# Altium schematic symbol library BDS_NBIOT.SchLib: 20 symbols
Pins are listed as number, name and electrical type; pins without a type are passive.

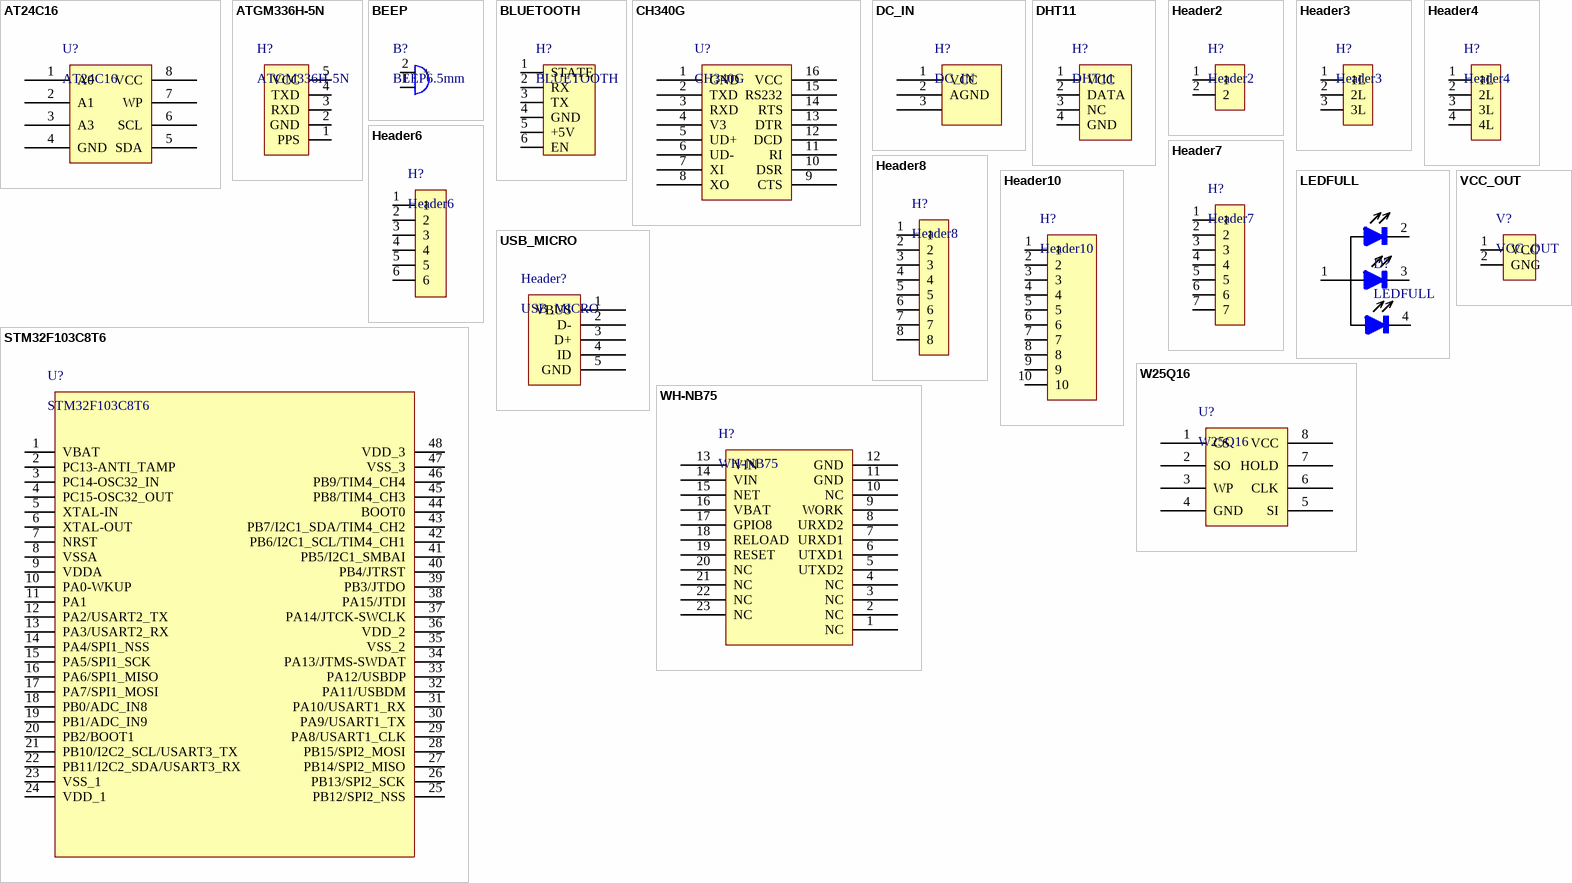
[diagram p0: symbols AT24C16 to WH-NB75]

## AT24C16
designator U?
EEPROM
pins: 1 A0, 2 A1, 3 A3, 4 GND, 5 SDA, 6 SCL, 7 WP, 8 VCC

## ATGM336H-5N
designator H?
GPS
pins: 1 PPS, 2 GND, 3 RXD, 4 TXD, 5 VCC

## BEEP
designator B?, comment BEEP6.5mm
蜂鸣器
footprint BEEP 6.5x12x6 (6.5*12*6mm(脚距,直径,高度))
pins: 1, 2 +

## BLUETOOTH
designator H?
蓝牙模组
footprint BLUETOOTH (蓝牙模块)
pins: 1 STATE, 2 RX, 3 TX, 4 GND, 5 +5V, 6 EN

## CH340G
designator U?
CH340芯片
pins: 1 GND, 2 TXD, 3 RXD, 4 V3, 5 UD+, 6 UD-, 7 XI, 8 XO, 9 CTS, 10 DSR, 11 RI, 12 DCD, 13 DTR, 14 RTS, 15 RS232, 16 VCC

## DC_IN
designator H?
电源座子
footprint DC-005 (5.5*2.1mm，DC30V,2.5A)
pins: 1 VCC, 2 AGND, 3

## DHT11
designator H?
DHT11温湿度传感器
footprint DHT11 (温湿度传感器)
pins: 1 VCC, 2 DATA, 3 NC, 4 GND

## Header2
designator H?
2P接线
pins: 1, 2

## Header3
designator H?
3P接线
pins: 1 1L, 2 2L, 3 3L

## Header4
designator H?
4P接线
pins: 1 1L, 2 2L, 3 3L, 4 4L

## Header6
designator H?
6P接线
pins: 1, 2, 3, 4, 5, 6

## Header7
designator H?
7P接线
pins: 1, 2, 3, 4, 5, 6, 7

## Header8
designator H?
8P接线
pins: 1, 2, 3, 4, 5, 6, 7, 8

## Header10
designator H?
10P接线
pins: 1, 2, 3, 4, 5, 6, 7, 8, 9, 10

## LEDFULL
designator D?
全彩LED
pins: 1, 2, 3, 4

## STM32F103C8T6
designator U?
pins: 1 VBAT, 2 PC13-ANTI_TAMP, 3 PC14-OSC32_IN, 4 PC15-OSC32_OUT, 5 XTAL-IN, 6 XTAL-OUT, 7 NRST, 8 VSSA, 9 VDDA, 10 PA0-WKUP, 11 PA1, 12 PA2/USART2_TX, 13 PA3/USART2_RX, 14 PA4/SPI1_NSS, 15 PA5/SPI1_SCK, 16 PA6/SPI1_MISO, 17 PA7/SPI1_MOSI, 18 PB0/ADC_IN8, 19 PB1/ADC_IN9, 20 PB2/BOOT1, 21 PB10/I2C2_SCL/USART3_TX, 22 PB11/I2C2_SDA/USART3_RX, 23 VSS_1, 24 VDD_1, 25 PB12/SPI2_NSS, 26 PB13/SPI2_SCK, 27 PB14/SPI2_MISO, 28 PB15/SPI2_MOSI, 29 PA8/USART1_CLK, 30 PA9/USART1_TX, 31 PA10/USART1_RX, 32 PA11/USBDM, 33 PA12/USBDP, 34 PA13/JTMS-SWDAT, 35 VSS_2, 36 VDD_2, 37 PA14/JTCK-SWCLK, 38 PA15/JTDI, 39 PB3/JTDO, 40 PB4/JTRST, 41 PB5/I2C1_SMBAI, 42 PB6/I2C1_SCL/TIM4_CH1, 43 PB7/I2C1_SDA/TIM4_CH2, 44 BOOT0, 45 PB8/TIM4_CH3, 46 PB9/TIM4_CH4, 47 VSS_3, 48 VDD_3

## USB_MICRO
designator Header?
迷你USB
pins: 1 VBUS, 2 D-, 3 D+, 4 ID, 5 GND

## VCC_OUT
designator V?
电源输入
pins: 1 VCC, 2 GNG

## W25Q16
designator U?
串行FLASH
pins: 1 CS, 2 SO, 3 WP, 4 GND, 5 SI, 6 CLK, 7 HOLD, 8 VCC

## WH-NB75
designator H?
NBIOT模块
pins: 1 NC, 2 NC, 3 NC, 4 NC, 5 UTXD2, 6 UTXD1, 7 URXD1, 8 URXD2, 9 WORK, 10 NC, 11 GND, 12 GND, 13 VIN, 14 VIN, 15 NET, 16 VBAT, 17 GPIO8, 18 RELOAD, 19 RESET, 20 NC, 21 NC, 22 NC, 23 NC